# EAGLE library part TRINKET_M0 (library Adafruit_Modules)
Adafruit Trinket M0 (ATSAMD21G18 32-bit Cortex M0+)
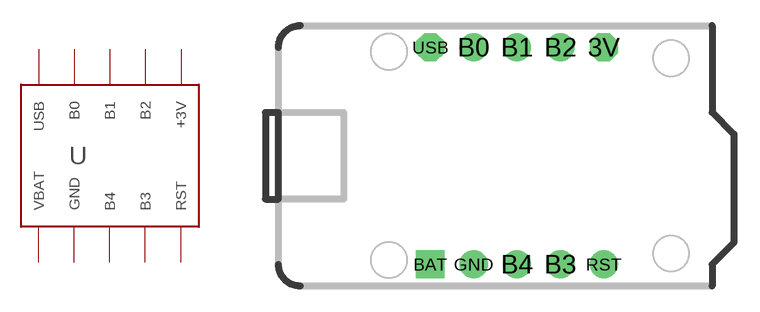
[diagram p9: symbol with the pads of TRINKET_M0; footprint TRINKET_M0]

Designator prefix -

## TRINKET_M0 (ADAFRUIT: 3500)  [TRINKET_M0]
3V  +3V  out
B0  B0
B1  B1
B2  B2
B3  B3
B4  B4
BAT  VBAT  pwr
GND  GND  pwr
RST  RST
USB  USB  out

## Footprint TRINKET_M0 (pad centres in mm)
Adafruit Trinket M0
drill 1.1 octagon: 3V 6.35,6.35; USB -3.81,6.35
drill 1.1: B0 -1.27,6.35; B1 1.27,6.35; B2 3.81,6.35; B3 3.81,-6.35; B4 1.27,-6.35; GND -1.27,-6.35; RST 6.35,-6.35
drill 1.1 square: BAT -3.81,-6.35